# EAGLE library part MIC2169-BUCK (library OddsBooster)
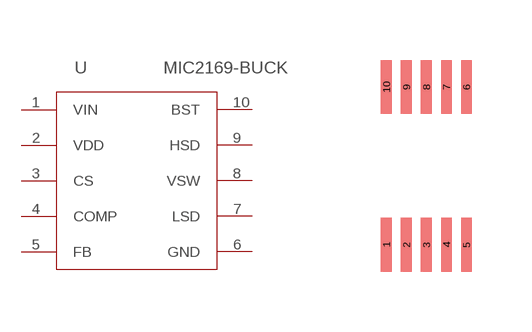
[diagram p3: symbol with the pads of MIC2169-BUCK; footprint MIC2169-BUCK]

Designator prefix U

## MIC2169-BUCK  [MIC2169-BUCK]
1  VIN  pwr
2  VDD  pwr
3  CS
4  COMP  in
5  FB
6  GND  pwr
7  LSD
8  VSW
9  HSD
10  BST

## Footprint MIC2169-BUCK (pad centres in mm)
smd 0.27 x 1.35: 1 -0.96,-2.11; 2 -0.46,-2.11; 3 0.04,-2.11; 4 0.54,-2.11; 5 1.04,-2.11; 6 1.04,1.83; 7 0.54,1.83; 8 0.04,1.83; 9 -0.46,1.83; 10 -0.96,1.83